# Altium footprint library NMos.PcbLib: 1 footprints
Each footprint in its own frame and in the unit in brackets; x right, y up, seen from the top. Pads: shape width x height; smd on the part's side, far side on the other; paste and mask are expansions set on the pad; w line width, h text height; cw(c..) or ccw(c..) is an arc to the next point about the centre after c.
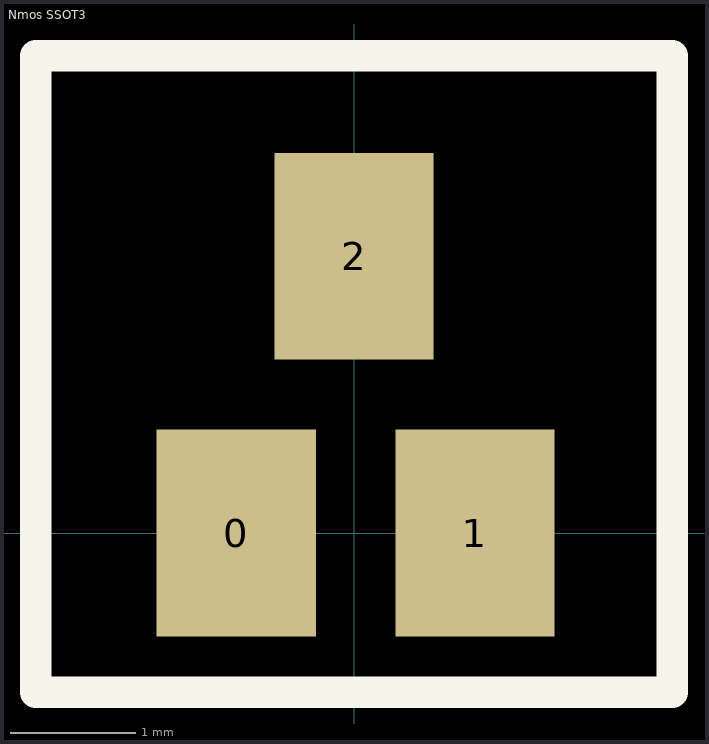
[diagram p0: the footprint, top view; thin cyan lines are the x and y axes]

## Nmos SSOT3 [mil]
pads (3):
  rect 50x65 smd: 0(-37,0) 1(38,0) 2(0,87)
Top Overlay:
  lines w10: -100,-50 -100,150 100,150 100,-50 -100,-50